# EAGLE library part AD8032ARZ-REEL7 (library puggleboard)
Rail-to-Rail I/O Amplifiers
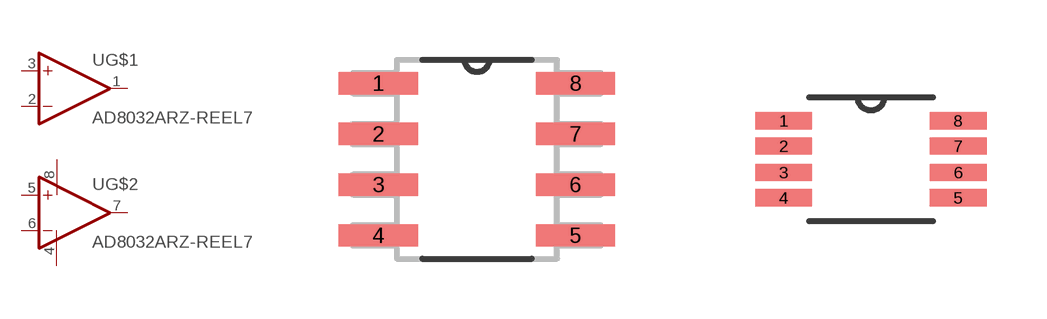
[diagram p10: symbol with the pads of SOIC127P600X175-8N; footprints SOIC127P600X175-8N, SOP65P490X110-8N]

Designator prefix U; gates G$1=OPAMP G$2=OPAMP G$3=PWR+-

## AD8032ARZ-REEL7 (MPN: AD8032ARZ-REEL7; OC_FARNELL: unknown; OC_NEWARK: 82H2954; PACKAGE: SOIC-8; SUPPLIER: Analog Devices)  [SOIC127P600X175-8N]
1  G$1:OUT  out
2  G$1:-IN  in
3  G$1:+IN  in
4  G$3:V-  in
5  G$2:+IN  in
6  G$2:-IN  in
7  G$2:OUT  out
8  G$3:V+  in

## AD8032ARZ-REEL7_SOP  [SOP65P490X110-8N]
Pads as for SOIC127P600X175-8N

## Footprint SOIC127P600X175-8N (pad centres in mm)
smd 1.981 x 0.559: 1 -2.464,1.905; 2 -2.464,0.635; 3 -2.464,-0.635; 4 -2.464,-1.905; 5 2.464,-1.905; 6 2.464,-0.635; 7 2.464,0.635; 8 2.464,1.905

## Footprint SOP65P490X110-8N (pad centres in mm)
smd 1.422 x 0.432: 1 -2.184,0.965; 2 -2.184,0.33; 3 -2.184,-0.33; 4 -2.184,-0.965; 5 2.184,-0.965; 6 2.184,-0.33; 7 2.184,0.33; 8 2.184,0.965